# Altium footprint library PcbLib1.PcbLib: 20 footprints (part 2 of 2)
Each footprint in its own frame and in the unit in brackets; x right, y up, seen from the top. Pads: shape width x height; smd on the part's side, far side on the other; paste and mask are expansions set on the pad; w line width, h text height; cw(c..) or ccw(c..) is an arc to the next point about the centre after c.
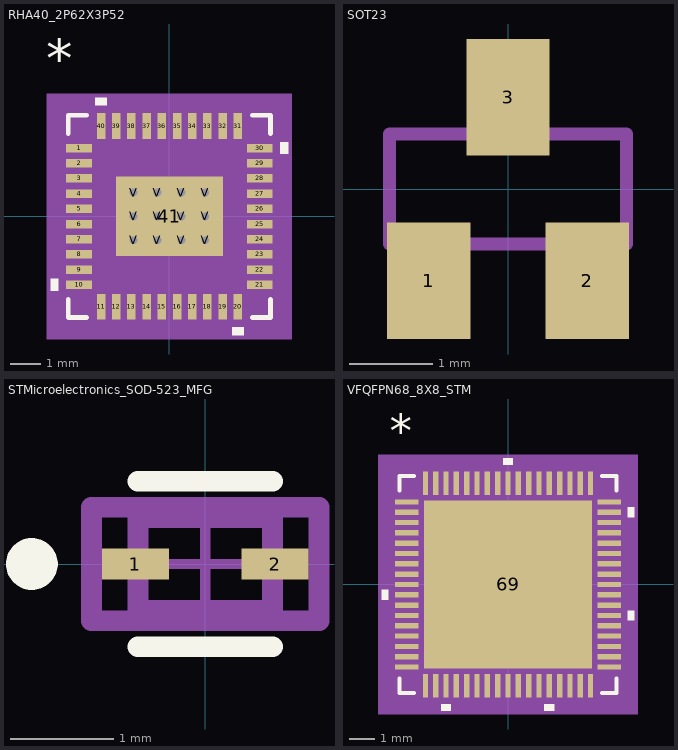
[diagram p1: the footprints below, top view; thin cyan lines are the x and y axes]

## RHA40_2P62X3P52 [mm]
pads (53):
  rect 0.85x0.28 smd paste-0.412: 1(-2.975,2.25) 2(-2.975,1.75) 3(-2.975,1.25) 4(-2.975,0.75) 5(-2.975,0.25) 6(-2.975,-0.25) 7(-2.975,-0.75) 8(-2.975,-1.25) 9(-2.975,-1.75) 10(-2.975,-2.25) 21(2.975,-2.25) 22(2.975,-1.75) 23(2.975,-1.25) 24(2.975,-0.75) 25(2.975,-0.25) 26(2.975,0.25) 27(2.975,0.75) 28(2.975,1.25) 29(2.975,1.75) 30(2.975,2.25)
  rect 0.28x0.85 smd paste-0.412: 11(-2.251,-2.975) 12(-1.75,-2.975) 13(-1.25,-2.975) 14(-0.75,-2.975) 15(-0.25,-2.975) 16(0.25,-2.975) 17(0.75,-2.975) 18(1.25,-2.975) 19(1.75,-2.975) 20(2.251,-2.975) 31(2.251,2.975) 32(1.75,2.975) 33(1.25,2.975) 34(0.75,2.975) 35(0.25,2.975) 36(-0.25,2.975) 37(-0.75,2.975) 38(-1.25,2.975) 39(-1.75,2.975) 40(-2.251,2.975)
  rect 3.52x2.62 smd paste-1.747 mask-1.753: 41(0,0)
  round 0.508 hole 0.254: V(-1.181,-0.787) V(-1.181,0) V(-1.181,0.787) V(-0.394,-0.787) V(-0.394,0) V(-0.394,0.787) V(0.394,-0.787) V(0.394,0) V(0.394,0.787) V(1.181,-0.787) V(1.181,0) V(1.181,0.787)
Top Overlay:
  region: -3.654,-2.06 -3.908,-2.06 -3.908,-2.441 -3.654,-2.441
  region: 2.441,-3.654 2.06,-3.654 2.06,-3.908 2.441,-3.908
  region: 3.654,2.441 3.908,2.441 3.908,2.06 3.654,2.06
  region: -2.06,3.654 -2.441,3.654 -2.441,3.908 -2.06,3.908
  lines w0.152: -3.329,-2.723 -3.329,-3.329 -2.723,-3.329 ; -3.329,2.723 -3.329,3.329 -2.723,3.329 ; 2.723,-3.329 3.329,-3.329 3.329,-2.723 ; 2.723,3.329 3.329,3.329 3.329,2.723
  text "*" at -4.064,4.572 h1.27
Top Paste:
  drawing of 60 lines, arcs and shapes, not listed
Top Solder:
  drawing of 49 lines, arcs and shapes, not listed
Mechanical 5:
  region: 4.035,-4.035 -4.035,-4.035 -4.035,4.035 4.035,4.035
Mechanical 13:
  lines w0.025: -3.075,1.805 -1.805,3.075 ; -3.075,-3.075 3.075,-3.075 3.075,3.075 -3.075,3.075 -3.075,-3.075 ; -3.075,-2.365 -3.075,-2.135 -3.075,-2.365 ; -3.075,-1.865 -3.075,-1.635 -3.075,-1.865 ; -3.075,-1.365 -3.075,-1.135 -3.075,-1.365 ; -3.075,-0.865 -3.075,-0.635 -3.075,-0.865 ; -3.075,-0.365 -3.075,-0.135 -3.075,-0.365 ; -3.075,0.135 -3.075,0.365 -3.075,0.135 ; -3.075,0.635 -3.075,0.865 -3.075,0.635 ; -3.075,1.135 -3.075,1.365 -3.075,1.135 ; -3.075,1.635 -3.075,1.865 -3.075,1.635 ; -3.075,2.135 -3.075,2.365 -3.075,2.135 ; -2.365,-3.075 -2.135,-3.075 -2.365,-3.075 ; -2.365,3.075 -2.135,3.075 -2.365,3.075 ; -1.865,-3.075 -1.635,-3.075 -1.865,-3.075 ; -1.865,3.075 -1.635,3.075 -1.865,3.075 ; -1.365,-3.075 -1.135,-3.075 -1.365,-3.075 ; -1.365,3.075 -1.135,3.075 -1.365,3.075 ; -0.865,-3.075 -0.635,-3.075 -0.865,-3.075 ; -0.865,3.075 -0.635,3.075 -0.865,3.075 ; -0.365,-3.075 -0.135,-3.075 -0.365,-3.075 ; -0.365,3.075 -0.135,3.075 -0.365,3.075 ; 0.135,-3.075 0.365,-3.075 0.135,-3.075 ; 0.135,3.075 0.365,3.075 0.135,3.075 ; 0.635,-3.075 0.865,-3.075 0.635,-3.075 ; 0.635,3.075 0.865,3.075 0.635,3.075 ; 1.135,-3.075 1.365,-3.075 1.135,-3.075 ; 1.135,3.075 1.365,3.075 1.135,3.075 ; 1.635,-3.075 1.865,-3.075 1.635,-3.075 ; 1.635,3.075 1.865,3.075 1.635,3.075 ; 2.135,-3.075 2.365,-3.075 2.135,-3.075 ; 2.135,3.075 2.365,3.075 2.135,3.075 ; 3.075,-2.365 3.075,-2.135 3.075,-2.365 ; 3.075,-1.865 3.075,-1.635 3.075,-1.865 ; 3.075,-1.365 3.075,-1.135 3.075,-1.365 ; 3.075,-0.865 3.075,-0.635 3.075,-0.865 ; 3.075,-0.365 3.075,-0.135 3.075,-0.365 ; 3.075,0.135 3.075,0.365 3.075,0.135 ; 3.075,0.635 3.075,0.865 3.075,0.635 ; 3.075,1.135 3.075,1.365 3.075,1.135 ; 3.075,1.635 3.075,1.865 3.075,1.635 ; 3.075,2.135 3.075,2.365 3.075,2.135
  text "*" at -4.064,4.572 h1.27
Mechanical 15:
  region: 3.654,-3.654 -3.654,-3.654 -3.654,3.654 3.654,3.654
  lines w0.152: -3.654,-3.654 -3.654,3.654 3.654,3.654 3.654,-3.654 -3.654,-3.654
3D body: height 0.25, standoff 0, extent 0,0 0.254,0.254

## SOT23 [mm]
pads (3):
  rect 1x1.4 smd: 1(-0.95,-1.1) 2(0.95,-1.1) 3(0,1.1)
Mechanical 13:
  region: 0.229,0.711 -0.229,0.711 -0.229,1.295 0.229,1.295
  region: 1.168,-1.297 0.712,-1.297 0.712,-0.711 1.168,-0.711
  region: -0.711,-1.297 -1.17,-1.297 -1.17,-0.711 -0.711,-0.711
  lines w0.152: -1.422,-0.66 1.422,-0.66 1.422,0.66 -1.422,0.66 -1.422,-0.66

## STMicroelectronics_SOD-523_MFG [mm]
pads (2):
  rect 0.65x0.3 smd paste+0 mask+0: 1(-0.675,0) 2(0.675,0)
Top Overlay:
  circle w0.25: c-1.675,0 r0.125
  lines w0.2: -0.65,-0.8 0.65,-0.8 ; -0.65,0.8 0.65,0.8
Mechanical 10:
  lines w0.2: -1.1,-0.55 -1.1,0.55 1.1,0.55 1.1,-0.55 -1.1,-0.55
Mechanical 12:
  lines w0.2: -0.65,-0.45 -0.65,0.45 0.65,0.45 0.65,-0.45 -0.65,-0.45
Mechanical 15:
  lines w0.1: -0.5,0 0.5,0 ; 0,-0.5 0,0.5
  lines w0.2: -1.1,-0.55 -1.1,0.55 1.1,0.55 1.1,-0.55 -1.1,-0.55
3D body "Diode_STMicroelectronics_BAT54KFILM_eec.STEP": height 0.7, standoff 0, extent -0.8,-0.4 0.8,0.4

## VFQFPN68_8X8_STM [mil]
pads (69):
  rect 36x8 smd paste+0 mask+0: 1(-154.5,125.98) 2(-154.5,110.24) 3(-154.5,94.49) 4(-154.5,78.74) 5(-154.5,62.99) 6(-154.5,47.24) 7(-154.5,31.5) 8(-154.5,15.75) 9(-154.5,0) 10(-154.5,-15.75) 11(-154.5,-31.5) 12(-154.5,-47.24) 13(-154.5,-62.99) 14(-154.5,-78.74) 15(-154.5,-94.49) 16(-154.5,-110.24) 17(-154.5,-125.98) 35(154.5,-125.98) 36(154.5,-110.24) 37(154.5,-94.49) 38(154.5,-78.74) 39(154.5,-62.99) 40(154.5,-47.24) 41(154.5,-31.5) 42(154.5,-15.75) 43(154.5,0) 44(154.5,15.75) 45(154.5,31.5) 46(154.5,47.24) 47(154.5,62.99) 48(154.5,78.74) 49(154.5,94.49) 50(154.5,110.24) 51(154.5,125.98)
  rect 8x36 smd paste+0 mask+0: 18(-125.98,-154.5) 19(-110.24,-154.5) 20(-94.49,-154.5) 21(-78.74,-154.5) 22(-62.99,-154.5) 23(-47.24,-154.5) 24(-31.5,-154.5) 25(-15.75,-154.5) 26(0,-154.5) 27(15.75,-154.5) 28(31.5,-154.5) 29(47.24,-154.5) 30(62.99,-154.5) 31(78.74,-154.5) 32(94.49,-154.5) 33(110.24,-154.5) 34(125.98,-154.5) 52(125.98,154.5) 53(110.24,154.5) 54(94.49,154.5) 55(78.74,154.5) 56(62.99,154.5) 57(47.24,154.5) 58(31.5,154.5) 59(15.75,154.5) 60(0,154.5) 61(-15.75,154.5) 62(-31.5,154.5) 63(-47.24,154.5) 64(-62.99,154.5) 65(-78.74,154.5) 66(-94.49,154.5) 67(-110.24,154.5) 68(-125.98,154.5)
  rect 256x256 smd paste-127.5 mask+0: 69(0,0)
Top Overlay:
  region: 7.5,182.5 -7.5,182.5 -7.5,192.5 7.5,192.5
  region: 182.5,117.74 192.5,117.74 192.5,102.74 182.5,102.74
  region: 182.5,-39.74 192.5,-39.74 192.5,-54.74 182.5,-54.74
  region: 70.49,-182.5 55.49,-182.5 55.49,-192.5 70.49,-192.5
  region: -86.99,-182.5 -101.99,-182.5 -101.99,-192.5 -86.99,-192.5
  region: -182.5,-8.25 -192.5,-8.25 -192.5,-23.25 -182.5,-23.25
  lines w6: -165.5,-143.08 -165.5,-165.5 -143.08,-165.5 ; -165.5,143.08 -165.5,165.5 -143.08,165.5 ; 143.08,-165.5 165.5,-165.5 165.5,-143.08 ; 143.08,165.5 165.5,165.5 165.5,143.08
  text "*" at -180,210 h50
Top Paste:
  region: 124.06,-80.74 80.74,-80.74 80.74,-124.06 124.06,-124.06
  region: 124.06,-29.54 80.74,-29.54 80.74,-72.86 124.06,-72.86
  region: 124.06,21.66 80.74,21.66 80.74,-21.66 124.06,-21.66
  region: 124.06,72.86 80.74,72.86 80.74,29.54 124.06,29.54
  region: 124.06,124.06 80.74,124.06 80.74,80.74 124.06,80.74
  region: 72.86,-80.74 29.54,-80.74 29.54,-124.06 72.86,-124.06
  region: 72.86,-29.54 29.54,-29.54 29.54,-72.86 72.86,-72.86
  region: 72.86,21.66 29.54,21.66 29.54,-21.66 72.86,-21.66
  region: 72.86,72.86 29.54,72.86 29.54,29.54 72.86,29.54
  region: 72.86,124.06 29.54,124.06 29.54,80.74 72.86,80.74
  region: 21.66,-80.74 -21.66,-80.74 -21.66,-124.06 21.66,-124.06
  region: 21.66,-29.54 -21.66,-29.54 -21.66,-72.86 21.66,-72.86
  region: 21.66,21.66 -21.66,21.66 -21.66,-21.66 21.66,-21.66
  region: 21.66,72.86 -21.66,72.86 -21.66,29.54 21.66,29.54
  region: 21.66,124.06 -21.66,124.06 -21.66,80.74 21.66,80.74
  region: -29.54,-80.74 -72.86,-80.74 -72.86,-124.06 -29.54,-124.06
  region: -29.54,-29.54 -72.86,-29.54 -72.86,-72.86 -29.54,-72.86
  region: -29.54,21.66 -72.86,21.66 -72.86,-21.66 -29.54,-21.66
  region: -29.54,72.86 -72.86,72.86 -72.86,29.54 -29.54,29.54
  region: -29.54,124.06 -72.86,124.06 -72.86,80.74 -29.54,80.74
  region: -80.74,-80.74 -124.06,-80.74 -124.06,-124.06 -80.74,-124.06
  region: -80.74,-29.54 -124.06,-29.54 -124.06,-72.86 -80.74,-72.86
  region: -80.74,21.66 -124.06,21.66 -124.06,-21.66 -80.74,-21.66
  region: -80.74,72.86 -124.06,72.86 -124.06,29.54 -80.74,29.54
  region: -80.74,124.06 -124.06,124.06 -124.06,80.74 -80.74,80.74
Mechanical 5:
  region: 197.5,-197.5 -197.5,-197.5 -197.5,197.5 197.5,197.5
Mechanical 13:
  lines w1: -160.5,110.5 -110.5,160.5 ; -160.5,-160.5 -160.5,160.5 160.5,160.5 160.5,-160.5 -160.5,-160.5 ; -160.5,-130.98 -160.5,-120.98 -160.5,-130.98 ; -160.5,-115.24 -160.5,-105.24 -160.5,-115.24 ; -160.5,-99.49 -160.5,-89.49 -160.5,-99.49 ; -160.5,-83.74 -160.5,-73.74 -160.5,-83.74 ; -160.5,-67.99 -160.5,-57.99 -160.5,-67.99 ; -160.5,-52.24 -160.5,-42.24 -160.5,-52.24 ; -160.5,-36.5 -160.5,-26.5 -160.5,-36.5 ; -160.5,-20.75 -160.5,-10.75 -160.5,-20.75 ; -160.5,-5 -160.5,5 -160.5,-5 ; -160.5,10.75 -160.5,20.75 -160.5,10.75 ; -160.5,26.5 -160.5,36.5 -160.5,26.5 ; -160.5,42.24 -160.5,52.24 -160.5,42.24 ; -160.5,57.99 -160.5,67.99 -160.5,57.99 ; -160.5,73.74 -160.5,83.74 -160.5,73.74 ; -160.5,89.49 -160.5,99.49 -160.5,89.49 ; -160.5,105.24 -160.5,115.24 -160.5,105.24 ; -160.5,120.98 -160.5,130.98 -160.5,120.98 ; -130.98,-160.5 -120.98,-160.5 -130.98,-160.5 ; -130.98,160.5 -120.98,160.5 -130.98,160.5 ; -115.24,-160.5 -105.24,-160.5 -115.24,-160.5 ; -115.24,160.5 -105.24,160.5 -115.24,160.5 ; -99.49,-160.5 -89.49,-160.5 -99.49,-160.5 ; -99.49,160.5 -89.49,160.5 -99.49,160.5 ; -83.74,-160.5 -73.74,-160.5 -83.74,-160.5 ; -83.74,160.5 -73.74,160.5 -83.74,160.5 ; -67.99,-160.5 -57.99,-160.5 -67.99,-160.5 ; -67.99,160.5 -57.99,160.5 -67.99,160.5 ; -52.24,-160.5 -42.24,-160.5 -52.24,-160.5 ; -52.24,160.5 -42.24,160.5 -52.24,160.5 ; -36.5,-160.5 -26.5,-160.5 -36.5,-160.5 ; -36.5,160.5 -26.5,160.5 -36.5,160.5 ; -20.75,-160.5 -10.75,-160.5 -20.75,-160.5 ; -20.75,160.5 -10.75,160.5 -20.75,160.5 ; -5,-160.5 5,-160.5 -5,-160.5 ; -5,160.5 5,160.5 -5,160.5 ; 10.75,-160.5 20.75,-160.5 10.75,-160.5 ; 10.75,160.5 20.75,160.5 10.75,160.5 ; 26.5,-160.5 36.5,-160.5 26.5,-160.5 ; 26.5,160.5 36.5,160.5 26.5,160.5 ; 42.24,-160.5 52.24,-160.5 42.24,-160.5 ; 42.24,160.5 52.24,160.5 42.24,160.5 ; 57.99,-160.5 67.99,-160.5 57.99,-160.5 ; 57.99,160.5 67.99,160.5 57.99,160.5 ; 73.74,-160.5 83.74,-160.5 73.74,-160.5 ; 73.74,160.5 83.74,160.5 73.74,160.5 ; 89.49,-160.5 99.49,-160.5 89.49,-160.5 ; 89.49,160.5 99.49,160.5 89.49,160.5 ; 105.24,-160.5 115.24,-160.5 105.24,-160.5 ; 105.24,160.5 115.24,160.5 105.24,160.5 ; 120.98,-160.5 130.98,-160.5 120.98,-160.5 ; 120.98,160.5 130.98,160.5 120.98,160.5 ; 160.5,-130.98 160.5,-120.98 160.5,-130.98 ; 160.5,-115.24 160.5,-105.24 160.5,-115.24 ; 160.5,-99.49 160.5,-89.49 160.5,-99.49 ; 160.5,-83.74 160.5,-73.74 160.5,-83.74 ; 160.5,-67.99 160.5,-57.99 160.5,-67.99 ; 160.5,-52.24 160.5,-42.24 160.5,-52.24 ; 160.5,-36.5 160.5,-26.5 160.5,-36.5 ; 160.5,-20.75 160.5,-10.75 160.5,-20.75 ; 160.5,-5 160.5,5 160.5,-5 ; 160.5,10.75 160.5,20.75 160.5,10.75 ; 160.5,26.5 160.5,36.5 160.5,26.5 ; 160.5,42.24 160.5,52.24 160.5,42.24 ; 160.5,57.99 160.5,67.99 160.5,57.99 ; 160.5,73.74 160.5,83.74 160.5,73.74 ; 160.5,89.49 160.5,99.49 160.5,89.49 ; 160.5,105.24 160.5,115.24 160.5,105.24 ; 160.5,120.98 160.5,130.98 160.5,120.98
  text "*" at -149,108.86 h50
Mechanical 15:
  region: -139.98,-170.5 -170.5,-170.5 -170.5,-139.98 -182.5,-139.98 -182.5,139.98 -170.5,139.98 -170.5,170.5 -139.98,170.5 -139.98,182.5 139.98,182.5 139.98,170.5 170.5,170.5 170.5,139.98 182.5,139.98 182.5,-139.98 170.5,-139.98 170.5,-170.5 139.98,-170.5 139.98,-182.5 -139.98,-182.5
  lines w6: -182.5,-139.98 -182.5,139.98 -170.5,139.98 -170.5,170.5 -139.98,170.5 -139.98,182.5 139.98,182.5 139.98,170.5 170.5,170.5 170.5,139.98 182.5,139.98 182.5,-139.98 170.5,-139.98 170.5,-170.5 139.98,-170.5 139.98,-182.5 -139.98,-182.5 -139.98,-170.5 -170.5,-170.5 -170.5,-139.98 -182.5,-139.98
3D body: height 10, standoff 0, extent 0,0 10,10